# EAGLE library part MICROSD (library Sensors)
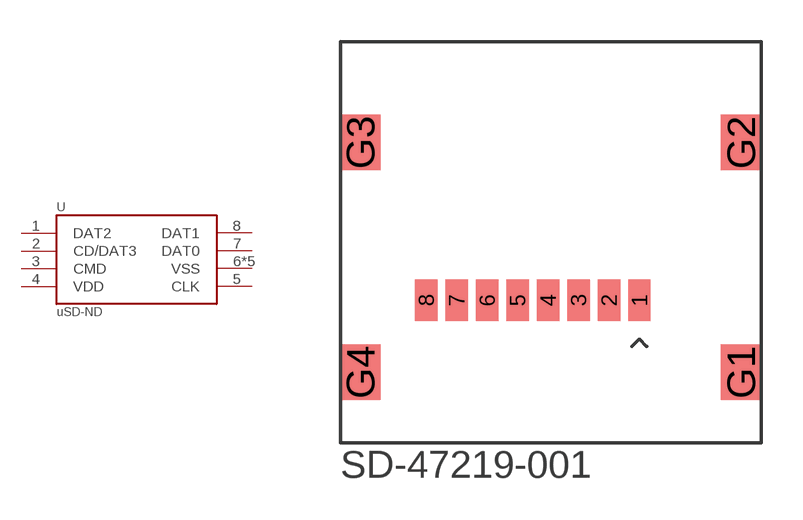
[diagram p5: symbol with the pads of MOLEX_SD-47219; footprint MOLEX_SD-47219]

Designator prefix -

## MICROSD  [MOLEX_SD-47219]
1  DAT2
2  CD/DAT3
3  CMD
4  VDD
5  CLK
6  VSS
7  DAT0
8  DAT1
G1  VSS
G2  VSS
G3  VSS
G4  VSS

## Footprint MOLEX_SD-47219 (pad centres in mm)
1.10mm Pitch microSD Card Connector, Hinge Type, Lead-Free
smd 0.8 x 1.5: 1 10.805,5.15; 2 9.705,5.15; 3 8.605,5.15; 4 7.505,5.15; 5 6.405,5.15; 6 5.305,5.15; 7 4.205,5.15; 8 3.105,5.15
smd 1.45 x 2: G1 14.475,2.55; G2 14.475,10.85; G3 0.725,10.85; G4 0.725,2.55